# Altium footprint library General Library.PcbLib: 25 footprints (part 2 of 2)
Each footprint in its own frame and in the unit in brackets; x right, y up, seen from the top. Pads: shape width x height; smd on the part's side, far side on the other; paste and mask are expansions set on the pad; w line width, h text height; cw(c..) or ccw(c..) is an arc to the next point about the centre after c.
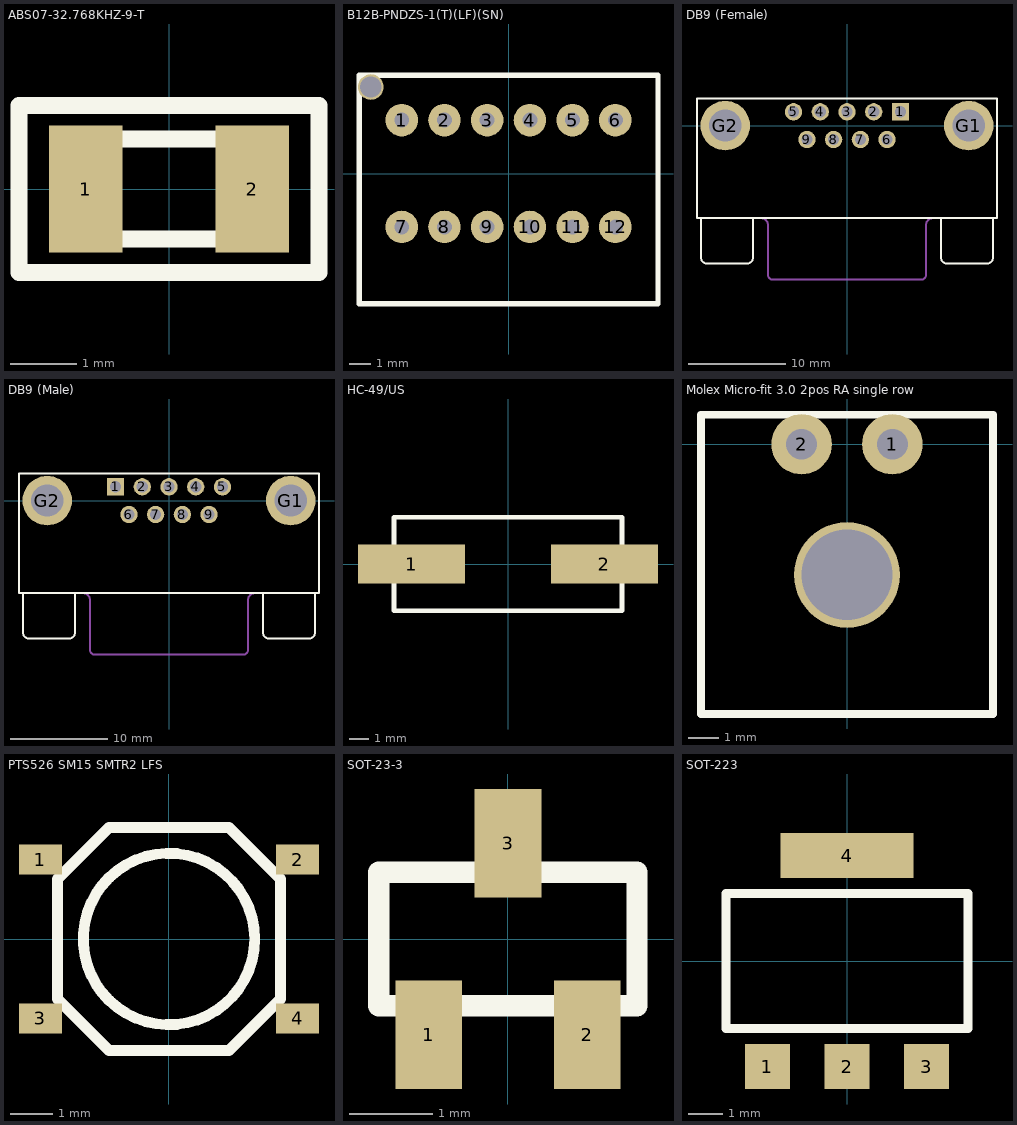
[diagram p1: the footprints below, top view; thin cyan lines are the x and y axes]

## ABS07-32.768KHZ-9-T [mm] "32.768kHz ±20ppm Crystal 9pF 70 kOhms 2-SMD, No Lead"
pads (2):
  rect 1.1x1.9 smd: 1(-1.25,0) 2(1.25,0)
Top Overlay:
  lines w0.254: -2.25,-1.25 -2.25,1.25 2.25,1.25 2.25,-1.25 -2.25,-1.25 ; -1.6,-0.75 -1.6,0.75 1.6,0.75 1.6,-0.75 -1.6,-0.75
3D body "ABS07.STEP": height 0.9, standoff 0.01, extent -1.6,-0.749 1.6,0.749

## B12B-PNDZS-1(T)(LF)(SN) [mm]
pads (13):
  round 1.524 hole 0.7: 1(-5,2.5) 2(-3,2.5) 3(-1,2.5) 4(1,2.5) 5(3,2.5) 6(5,2.5) 7(-5,-2.5) 8(-3,-2.5) 9(-1,-2.5) 10(1,-2.5) 11(3,-2.5) 12(5,-2.5)
  round 1.2 hole 1: ""(-6.45,4.05)
Top Overlay:
  lines w0.254: -7,-6.1 -7,4.6 7,4.6 7,-6.1 -7,-6.1

## DB9 (Female) [mil]
pads (11):
  rect 70x70 hole 45: 1(216,56)
  round 70 hole 45: 2(108,56) 3(0,56) 4(-108,56) 5(-216,56) 6(162,-56) 7(54,-56) 8(-54,-56) 9(-162,-56)
  round 200 hole 130: G1(492,0) G2(-492,0)
Top Overlay:
  lines w8: -590,-375 -590,-533 ccw(c-565,-533) -565,-558 -405,-558 ccw(c-405,-533) -380,-533 -380,-375 ; 380,-375 380,-533 ccw(c405,-533) 405,-558 565,-558 ccw(c565,-533) 590,-533 590,-375 ; -606.3,-374.02 606.3,-374.02 606.3,110.24 -606.3,110.24 -606.3,-374.02
Mechanical 13:
  lines w8: -320,-602.32 ccw(c-300,-602.32) -300,-622.32 ; -320,-602.32 ccw(c-300,-602.32) -300,-622.32 ; -320,-602.32 -320,-402.32 -320,-602.32 ; -300,-622.32 300,-622.32 ; -300,-622.32 300,-622.32 ; 300,-622.32 ccw(c300,-602.32) 320,-602.32 ; 300,-622.32 ccw(c300,-602.32) 320,-602.32 ; 320,-602.32 320,-402.32 320,-602.32 ; -344.79,-374.03 cw(c-346.65,-400.67) -320.01,-402.53 ccw(c-346.65,-400.67) -344.79,-374.03 ; 320.01,-402.53 cw(c346.65,-400.67) 344.79,-374.03 ccw(c346.65,-400.67) 320.01,-402.53

## DB9 (Male) [mil]
pads (11):
  rect 70x70 hole 45: 1(-216,56)
  round 70 hole 45: 2(-108,56) 3(0,56) 4(108,56) 5(216,56) 6(-162,-56) 7(-54,-56) 8(54,-56) 9(162,-56)
  round 200 hole 130: G1(492,0) G2(-492,0)
Top Overlay:
  lines w8: -590,-375 -590,-533 ccw(c-565,-533) -565,-558 -405,-558 ccw(c-405,-533) -380,-533 -380,-375 ; 380,-375 380,-533 ccw(c405,-533) 405,-558 565,-558 ccw(c565,-533) 590,-533 590,-375 ; -606.3,-374.02 606.3,-374.02 606.3,110.24 -606.3,110.24 -606.3,-374.02
Mechanical 13:
  lines w8: -320,-602.32 ccw(c-300,-602.32) -300,-622.32 ; -320,-602.32 ccw(c-300,-602.32) -300,-622.32 ; -320,-602.32 -320,-402.32 -320,-602.32 ; -300,-622.32 300,-622.32 ; -300,-622.32 300,-622.32 ; 300,-622.32 ccw(c300,-602.32) 320,-602.32 ; 300,-622.32 ccw(c300,-602.32) 320,-602.32 ; 320,-602.32 320,-402.32 320,-602.32 ; -344.79,-374.03 cw(c-346.65,-400.67) -320.01,-402.53 ccw(c-346.65,-400.67) -344.79,-374.03 ; 320.01,-402.53 cw(c346.65,-400.67) 344.79,-374.03 ccw(c346.65,-400.67) 320.01,-402.53

## HC-49/US [mm]
pads (2):
  rect 5.5x2 smd: 1(-4.95,0) 2(4.95,0)
Top Overlay:
  lines w0.254: -5.85,-2.4 5.85,-2.4 5.85,2.4 -5.85,2.4 -5.85,-2.4
3D body "crystal_hc-49-smd.step": height 4.2, standoff 0, extent -5.807,-2.35 5.802,2.35

## Molex Micro-fit 3.0 2pos RA single row [mm]
pads (3):
  round 2 hole 1.02: 1(1.5,0) 2(-1.5,0)
  round 3.5 hole 3: ""(0,-4.32)
Top Overlay:
  lines w0.254: -4.825,-8.92 -4.825,0.98 4.825,0.98 4.825,-8.92 -4.825,-8.92
3D body "436500200.stp": height 5.58, standoff -3.33, extent -4.825,-8.95 4.825,0.95

## PTS526 SM15 SMTR2 LFS [mm]
pads (4):
  rect 1x0.7 smd: 1(-3,1.85) 2(3,1.85) 3(-3,-1.85) 4(3,-1.85)
Top Overlay:
  circle w0.254: c0,0 r2
  lines w0.254: -2.6,-1.4 -2.6,1.4 -1.4,2.6 1.4,2.6 2.6,1.4 2.6,-1.4 1.4,-2.6 -1.4,-2.6 -2.6,-1.4

## SOT-23-3 [mm]
pads (3):
  rect 0.8x1.3 smd: 1(-0.95,-1.15) 2(0.95,-1.15) 3(0,1.15)
Top Overlay:
  lines w0.254: -1.55,-0.8 -1.55,0.8 1.55,0.8 1.55,-0.8 -1.55,-0.8
3D body "SOT23-3.stp": height 1.2, standoff 0.02, extent -1.5,-1.418 1.5,1.418

## SOT-223 [mm]
pads (4):
  rect 1.3x1.3 smd: 1(-2.3,-3.05) 2(0,-3.05) 3(2.3,-3.05)
  rect 3.85x1.3 smd: 4(0,3.05)
Top Overlay:
  lines w0.254: -3.5,-1.95 3.5,-1.95 3.5,1.95 -3.5,1.95 -3.5,-1.95
3D body "sot223_p2-3_l6-7_w3-7.stp": height 1.71, standoff -0.09, extent -3.35,-3.652 3.35,3.648